# Altium footprint library RF_Module.PcbLib: 68 footprints (part 4 of 5)
Each footprint in its own frame and in the unit in brackets; x right, y up, seen from the top. Pads: shape width x height; smd on the part's side, far side on the other; paste and mask are expansions set on the pad; w line width, h text height; cw(c..) or ccw(c..) is an arc to the next point about the centre after c.
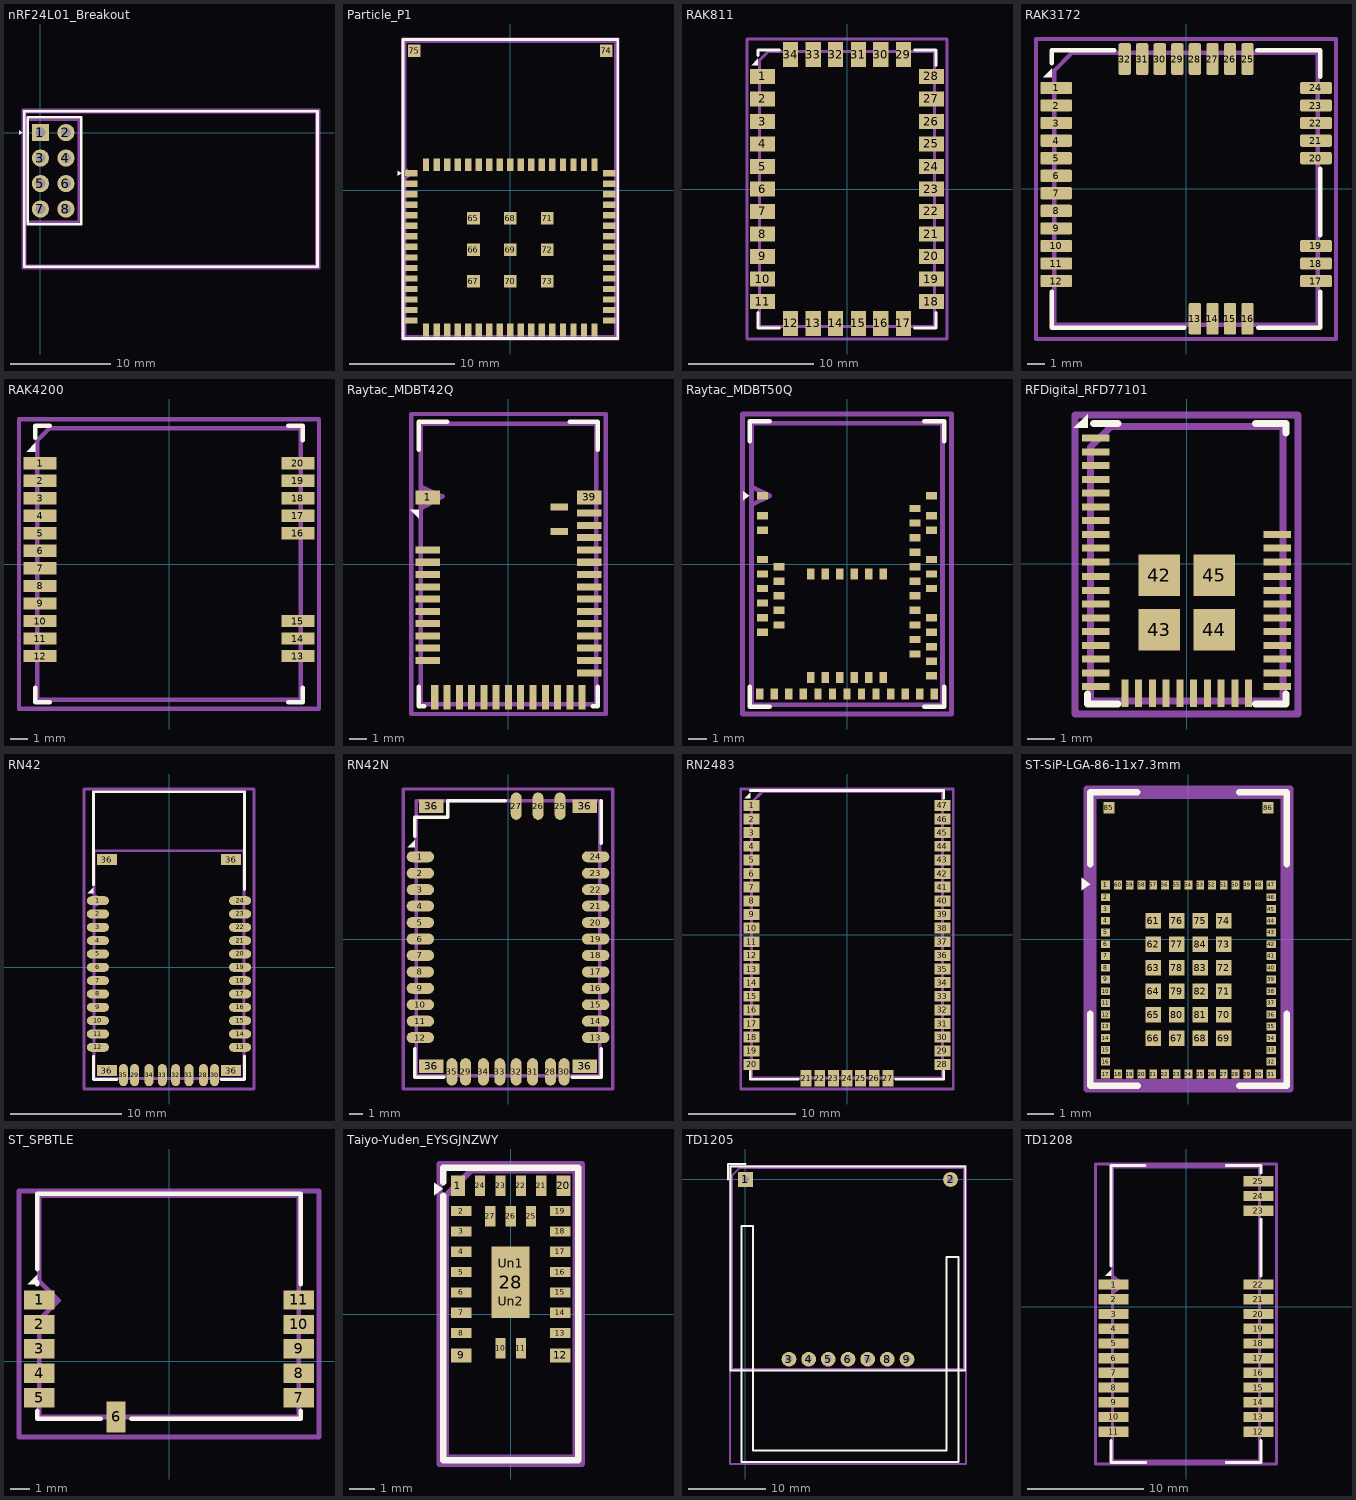
[diagram p3: the footprints below, top view; thin cyan lines are the x and y axes]

## nRF24L01_Breakout [mm]
pads (8):
  rect 1.7x1.7 hole 1: 1(0,0)
  round 1.7 hole 1: 2(2.54,0) 3(0,-2.54) 4(2.54,-2.54) 5(0,-5.08) 6(2.54,-5.08) 7(0,-7.62) 8(2.54,-7.62)
F.SilkS:
  region: -1.8,0 -2.136,-0.24 -2.136,0.24
  lines w0.254: -1.6,-13.35 -1.6,2.1 27.6,2.1 27.6,-13.35 -1.6,-13.35 ; -1.27,-9.144 -1.27,1.524 4.064,1.524 4.064,-9.144 -1.27,-9.144
F.Fab:
  lines w0.254: -1.5,-13.25 -1.5,2 27.5,2 27.5,-13.25 -1.5,-13.25 ; -1.27,-8.89 -1.27,1.27 3.81,1.27 3.81,-8.89 -1.27,-8.89
  text "'.Designator'" at 8.453,-3.34 h1
F.CrtYd:
  lines w0.254: -1.75,-13.5 -1.75,2.25 27.75,2.25 27.75,-13.5 -1.75,-13.5

## Particle_P1 [mm]
pads (75):
  rect 1.2x0.6 smd: 1(-9.4,1.64) 2(-9.4,0.64) 3(-9.4,-0.36) 4(-9.4,-1.36) 5(-9.4,-2.36) 6(-9.4,-3.36) 7(-9.4,-4.36) 8(-9.4,-5.36) 9(-9.4,-6.36) 10(-9.4,-7.36) 11(-9.4,-8.36) 12(-9.4,-9.36) 13(-9.4,-10.36) 14(-9.4,-11.36) 15(-9.4,-12.36) 33(9.4,-12.36) 34(9.4,-11.36) 35(9.4,-10.36) 36(9.4,-9.36) 37(9.4,-8.36) 38(9.4,-7.36) 39(9.4,-6.36) 40(9.4,-5.36) 41(9.4,-4.36) 42(9.4,-3.36) 43(9.4,-2.36) 44(9.4,-1.36) 45(9.4,-0.36) 46(9.4,0.64) 47(9.4,1.64)
  rect 0.6x1.2 smd: 16(-8,-13.26) 17(-7,-13.26) 18(-6,-13.26) 19(-5,-13.26) 20(-4,-13.26) 21(-3,-13.26) 22(-2,-13.26) 23(-1,-13.26) 24(0,-13.26) 25(1,-13.26) 26(2,-13.26) 27(3,-13.26) 28(4,-13.26) 29(5,-13.26) 30(6,-13.26) 31(7,-13.26) 32(8,-13.26) 48(8,2.44) 49(7,2.44) 50(6,2.44) 51(5,2.44) 52(4,2.44) 53(3,2.44) 54(2,2.44) 55(1,2.44) 56(0,2.44) 57(-1,2.44) 58(-2,2.44) 59(-3,2.44) 60(-4,2.44) 61(-5,2.44) 62(-6,2.44) 63(-7,2.44) 64(-8,2.44)
  rect 1.2x1.2 smd: 65(-3.5,-2.63) 66(-3.5,-5.63) 67(-3.5,-8.63) 68(0,-2.63) 69(0,-5.63) 70(0,-8.63) 71(3.5,-2.63) 72(3.5,-5.63) 73(3.5,-8.63) 74(9.12,13.26) 75(-9.12,13.26)
F.SilkS:
  region: -10.35,1.65 -10.686,1.41 -10.686,1.89
  lines w0.254: -10.2,-14.06 -10.2,14.34 10.2,14.34 10.2,-14.06 -10.2,-14.06
F.Fab:
  lines w0.254: -10,-13.86 -10,1.1 -9.4,1.6 -10,2.1 -10,14.14 10,14.14 10,-13.86 -10,-13.86
  text "'.Designator'" at -4.047,-0.84 h1
F.CrtYd:
  lines w0.254: -10.25,-14.11 -10.25,14.39 10.25,14.39 10.25,-14.11 -10.25,-14.11
Cmts.User:
  text "No metal, traces or" at -6.913,8.175 h1
  text "components on any layer" at -8.955,6.783 h1
  text "KEEP-OUT ZONE" at -5.88,10.69 h1

## RAK811 [mm]
pads (34):
  rect 2x1.2 smd: 1(-6.75,9) 2(-6.75,7.2) 3(-6.75,5.4) 4(-6.75,3.6) 5(-6.75,1.8) 6(-6.75,0) 7(-6.75,-1.8) 8(-6.75,-3.6) 9(-6.75,-5.4) 10(-6.75,-7.2) 11(-6.75,-9) 18(6.75,-9) 19(6.75,-7.2) 20(6.75,-5.4) 21(6.75,-3.6) 22(6.75,-1.8) 23(6.75,0) 24(6.75,1.8) 25(6.75,3.6) 26(6.75,5.4) 27(6.75,7.2) 28(6.75,9)
  rect 1.2x2 smd: 12(-4.5,-10.75) 13(-2.7,-10.75) 14(-0.9,-10.75) 15(0.9,-10.75) 16(2.7,-10.75) 17(4.5,-10.75) 29(4.5,10.75) 30(2.7,10.75) 31(0.9,10.75) 32(-0.9,10.75) 33(-2.7,10.75) 34(-4.5,10.75)
F.SilkS:
  region: -7.12,9.9 -7.62,9.9 -7.12,10.4
  lines w0.254: -7.12,-9.9 -7.12,-11.12 -5.4,-11.12 ; -7.12,10.7 -7.12,11.12 -5.4,11.12 ; 5.4,-11.12 7.12,-11.12 7.12,-9.9 ; 5.4,11.12 7.12,11.12 7.12,9.9
F.Fab:
  lines w0.254: -7,-11 -7,10.3 -6.3,11 7,11 7,-11 -7,-11
  text "'.Designator'" at -4.047,-0.84 h1
F.CrtYd:
  lines w0.254: -8,-12 -8,12 8,12 8,-12 -8,-12

## RAK3172 [mm]
pads (32):
  rrect25% 1.8x0.7 smd: 1(-7.4,5.75) 2(-7.4,4.75) 3(-7.4,3.75) 4(-7.4,2.75) 5(-7.4,1.75) 6(-7.4,0.75) 7(-7.4,-0.25) 8(-7.4,-1.25) 9(-7.4,-2.25) 10(-7.4,-3.25) 11(-7.4,-4.25) 12(-7.4,-5.25) 17(7.4,-5.25) 18(7.4,-4.25) 19(7.4,-3.25) 20(7.4,1.75) 21(7.4,2.75) 22(7.4,3.75) 23(7.4,4.75) 24(7.4,5.75)
  rrect25% 0.7x1.8 smd: 13(0.5,-7.4) 14(1.5,-7.4) 15(2.5,-7.4) 16(3.5,-7.4) 25(3.5,7.4) 26(2.5,7.4) 27(1.5,7.4) 28(0.5,7.4) 29(-0.5,7.4) 30(-1.5,7.4) 31(-2.5,7.4) 32(-3.5,7.4)
F.SilkS:
  region: -7.65,6.35 -8.15,6.35 -7.65,6.85
  lines w0.254: -7.65,-5.85 -7.65,-7.9 -0.1,-7.9 ; -7.65,7.15 -7.65,7.85 ; -7.65,7.9 -4.1,7.9 ; 4.05,7.9 7.65,7.9 7.65,6.4 ; 4.1,-7.9 7.65,-7.9 7.65,-5.85 ; 7.65,-2.65 7.65,1.15
F.Fab:
  lines w0.254: -7.5,-7.75 -7.5,6.75 -6.5,7.75 7.5,7.75 7.5,-7.75 -7.5,-7.75
  text "'.Designator'" at -3.997,-2.29 h1
F.CrtYd:
  lines w0.254: -8.55,-8.55 -8.55,8.54 8.54,8.54 8.54,-8.55 -8.55,-8.55

## RAK4200 [mm]
pads (20):
  rect 1.9x0.7 smd: 1(-7.35,5.75) 2(-7.35,4.75) 3(-7.35,3.75) 4(-7.35,2.75) 5(-7.35,1.75) 6(-7.35,0.75) 7(-7.35,-0.25) 8(-7.35,-1.25) 9(-7.35,-2.25) 10(-7.35,-3.25) 11(-7.35,-4.25) 12(-7.35,-5.25) 13(7.35,-5.25) 14(7.35,-4.25) 15(7.35,-3.25) 16(7.35,1.75) 17(7.35,2.75) 18(7.35,3.75) 19(7.35,4.75) 20(7.35,5.75)
F.SilkS:
  region: -7.62,6.4 -8.12,6.4 -7.62,6.9
  lines w0.254: -7.62,-7.05 -7.62,-7.87 -6.8,-7.87 ; -7.62,7.2 -7.62,7.87 -6.8,7.87 ; 6.8,-7.87 7.62,-7.87 7.62,-7.05 ; 6.8,7.87 7.62,7.87 7.62,7.05
F.Fab:
  lines w0.254: -7.5,-7.75 -7.5,7.05 -6.8,7.75 7.5,7.75 7.5,-7.75 -7.5,-7.75
  text "'.Designator'" at -4.047,-0.84 h1
F.CrtYd:
  lines w0.254: -8.55,-8.25 -8.55,8.25 8.55,8.25 8.55,-8.25 -8.55,-8.25

## Raytac_MDBT42Q [mm]
pads (41):
  rect 1.4x0.8 smd: 1(-4.6,3.8) 39(4.6,3.8)
  rect 1.4x0.4 smd: 2(-4.6,0.8) 3(-4.6,0.1) 4(-4.6,-0.6) 5(-4.6,-1.3) 6(-4.6,-2) 7(-4.6,-2.7) 8(-4.6,-3.4) 9(-4.6,-4.1) 10(-4.6,-4.8) 11(-4.6,-5.5) 25(4.6,-6.2) 26(4.6,-5.5) 27(4.6,-4.8) 28(4.6,-4.1) 29(4.6,-3.4) 30(4.6,-2.7) 31(4.6,-2) 32(4.6,-1.3) 33(4.6,-0.6) 34(4.6,0.1) 35(4.6,0.8) 36(4.6,1.5) 37(4.6,2.2) 38(4.6,2.9)
  rect 0.4x1.4 smd: 12(-4.2,-7.6) 13(-3.5,-7.6) 14(-2.8,-7.6) 15(-2.1,-7.6) 16(-1.4,-7.6) 17(-0.7,-7.6) 18(0,-7.6) 19(0.7,-7.6) 20(1.4,-7.6) 21(2.1,-7.6) 22(2.8,-7.6) 23(3.5,-7.6) 24(4.2,-7.6)
  rect 1x0.4 smd: 40(2.9,3.25) 41(2.9,1.85)
F.SilkS:
  region: -5.1,2.6 -5.6,3.1 -5.1,3.1
  lines w0.254: -5.1,-7 -5.1,-8.1 -4.8,-8.1 ; -5.1,6.5 -5.1,8.1 -3.5,8.1 ; 3.5,8.1 5.1,8.1 5.1,6.5 ; 4.8,-8.1 5.1,-8.1 5.1,-7
F.Fab:
  lines w0.254: -5,3.15 -3.75,3.85 -5,4.4 ; -5,-8 5,-8 5,8 -5,8 -5,-8
  text "'.Designator'" at -4.047,-1.84 h1
F.CrtYd:
  lines w0.254: -5.55,-8.55 5.55,-8.55 5.55,8.55 -5.55,8.55 -5.55,-8.55

## Raytac_MDBT50Q [mm]
pads (61):
  rect 0.6x0.4 smd: 1(-4.65,3.75) 2(-4.65,2.65) 3(-4.65,1.85) 4(-4.65,0.25) 5(-3.75,-0.15) 6(-4.65,-0.55) 7(-3.75,-0.95) 8(-4.65,-1.35) 9(-3.75,-1.75) 10(-4.65,-2.15) 11(-3.75,-2.55) 12(-4.65,-2.95) 13(-3.75,-3.35) 14(-4.65,-3.75) 34(4.65,-6.15) 35(4.65,-5.35) 36(3.75,-4.95) 37(4.65,-4.55) 38(3.75,-4.15) 39(4.65,-3.75) 40(3.75,-3.35) 41(4.65,-2.95) 42(3.75,-2.55) 43(3.75,-1.75) 44(4.65,-1.35) 45(3.75,-0.95) 46(4.65,-0.55) 47(3.75,-0.15) 48(4.65,0.25) 49(3.75,0.65) 50(3.75,1.45) 51(4.65,1.85) 52(3.75,2.25) 53(4.65,2.65) 54(3.75,3.05) 55(4.65,3.75)
  rect 0.4x0.6 smd: 15(-4.8,-7.15) 16(-4,-7.15) 17(-3.2,-7.15) 18(-2.4,-7.15) 19(-2,-6.25) 20(-1.6,-7.15) 21(-1.2,-6.25) 22(-0.8,-7.15) 23(-0.4,-6.25) 24(0,-7.15) 25(0.4,-6.25) 26(0.8,-7.15) 27(1.2,-6.25) 28(1.6,-7.15) 29(2,-6.25) 30(2.4,-7.15) 31(3.2,-7.15) 32(4,-7.15) 33(4.8,-7.15) 56(-2,-0.55) 57(-1.2,-0.55) 58(-0.4,-0.55) 59(0.4,-0.55) 60(1.2,-0.55) 61(2,-0.55)
F.SilkS:
  region: -5.375,3.75 -5.711,3.51 -5.711,3.99
  lines w0.254: -5.35,-6.75 -5.35,-7.85 -4.25,-7.85 ; -5.35,6.75 -5.35,7.85 -4.25,7.85 ; 4.25,-7.85 5.35,-7.85 5.35,-6.75 ; 4.25,7.85 5.35,7.85 5.35,6.75
F.Fab:
  lines w0.254: -5.25,3.25 -4.25,3.75 -5.25,4.25 ; -5.25,-7.75 -5.25,7.75 5.25,7.75 5.25,-7.75 -5.25,-7.75
  text "'.Designator'" at -3.997,-2.59 h1
F.CrtYd:
  lines w0.254: -5.75,-8.25 -5.75,8.25 5.75,8.25 5.75,-8.25 -5.75,-8.25
Cmts.User:
  text "TOP LAYER" at -3.135,3.36 h0.4
  text "KEEP OUT" at -2.888,2.86 h0.4
  text "KEEP OUT ZONE" at -4.537,5.2 h0.8
3D body "Raytac_MDBT50Q.step": height 2.06, standoff 0, extent -5.25,-7.75 5.25,7.75

## RFDigital_RFD77101 [mm]
pads (45):
  rect 1x0.254 smd: 1(-3.305,4.57) 2(-3.305,4.07) 3(-3.305,3.57) 4(-3.305,3.07) 5(-3.305,2.57) 6(-3.305,2.07) 7(-3.305,1.57) 8(-3.305,1.07) 9(-3.305,0.57) 10(-3.305,0.07) 11(-3.305,-0.47) 12(-3.305,-0.97) 13(-3.305,-1.47) 14(-3.305,-1.97) 15(-3.305,-2.47) 16(-3.305,-2.97) 17(-3.305,-3.47) 18(-3.305,-3.97) 19(-3.305,-4.47) 30(3.305,-4.47) 31(3.305,-3.97) 32(3.305,-3.47) 33(3.305,-2.97) 34(3.305,-2.47) 35(3.305,-1.97) 36(3.305,-1.47) 37(3.305,-0.97) 38(3.305,-0.47) 39(3.305,0.07) 40(3.305,0.57) 41(3.305,1.07)
  rect 0.254x1 smd: 20(-2.25,-4.72) 21(-1.75,-4.72) 22(-1.25,-4.72) 23(-0.75,-4.72) 24(-0.25,-4.72) 25(0.25,-4.72) 26(0.75,-4.72) 27(1.25,-4.72) 28(1.75,-4.72) 29(2.25,-4.72)
  rrect0% 1.5x1.5 smd: 42(-1,-0.42)
  rect 1.5x1.5 smd: 43(-1,-2.4) 44(1,-2.4) 45(1,-0.42)
F.SilkS:
  region: -3.61,4.95 -4.11,4.95 -3.61,5.45
  lines w0.254: -3.61,-4.75 -3.61,-5.11 -2.5,-5.11 ; -3.4,5.11 -2.5,5.11 ; 2.5,-5.11 3.61,-5.11 3.61,-4.75 ; 2.5,5.11 3.61,5.11 3.61,4.75
F.Fab:
  lines w0.254: -3.5,-5 3.5,-5 3.5,5 -2.75,5 -3.5,4.25 -3.5,-5
  text "'.Designator'" at -4.047,-0.84 h1
F.CrtYd:
  lines w0.254: -4.06,-5.47 4.06,-5.47 4.06,5.42 -4.06,5.42 -4.06,-5.47

## RN42 [mm]
pads (36):
  rrect100% 2x0.8 smd: 1(-6.4,6) 2(-6.4,4.8) 3(-6.4,3.6) 4(-6.4,2.4) 5(-6.4,1.2) 6(-6.4,0) 7(-6.4,-1.2) 8(-6.4,-2.4) 9(-6.4,-3.6) 10(-6.4,-4.8) 11(-6.4,-6) 12(-6.4,-7.2) 13(6.4,-7.2) 14(6.4,-6) 15(6.4,-4.8) 16(6.4,-3.6) 17(6.4,-2.4) 18(6.4,-1.2) 19(6.4,0) 20(6.4,1.2) 21(6.4,2.4) 22(6.4,3.6) 23(6.4,4.8) 24(6.4,6)
  rrect100% 0.8x2 smd: 28(3.1,-9.7) 29(-3.1,-9.7) 30(4.1,-9.7) 31(1.8,-9.7) 32(0.6,-9.7) 33(-0.6,-9.7) 34(-1.8,-9.7) 35(-4.1,-9.7)
  rect 1.8x1 smd: 36(-5.6,-9.3) 36(-5.6,9.7) 36(5.6,-9.3) 36(5.6,9.7)
F.SilkS:
  region: -6.8,6.675 -7.3,6.675 -6.8,7.175
  lines w0.254: -6.8,-8 -6.8,-10.1 -4.7,-10.1 ; -6.8,7.425 -6.8,15.8 6.8,15.8 6.8,7 ; 4.7,-10.1 6.8,-10.1 6.8,-8
F.Fab:
  lines w0.254: -6.75,5.5 -5.75,6 -6.75,6.5 ; -6.75,-10 -6.75,10.5 6.75,10.5 6.75,-10 -6.75,-10
  text "'.Designator'" at -4.047,1.66 h1
F.CrtYd:
  lines w0.254: -7.65,-10.95 -7.65,16.05 7.65,16.05 7.65,-10.95 -7.65,-10.95
Cmts.User:
  text "Antenna Area" at -4.404,12.35 h1

## RN42N [mm]
pads (39):
  rrect100% 2x0.8 smd: 1(-6.4,6) 2(-6.4,4.8) 3(-6.4,3.6) 4(-6.4,2.4) 5(-6.4,1.2) 6(-6.4,0) 7(-6.4,-1.2) 8(-6.4,-2.4) 9(-6.4,-3.6) 10(-6.4,-4.8) 11(-6.4,-6) 12(-6.4,-7.2) 13(6.4,-7.2) 14(6.4,-6) 15(6.4,-4.8) 16(6.4,-3.6) 17(6.4,-2.4) 18(6.4,-1.2) 19(6.4,0) 20(6.4,1.2) 21(6.4,2.4) 22(6.4,3.6) 23(6.4,4.8) 24(6.4,6)
  rrect100% 0.8x2 smd: 25(3.8,9.7) 26(2.2,9.7) 27(0.6,9.7) 28(3.1,-9.7) 29(-3.1,-9.7) 30(4.1,-9.7) 31(1.8,-9.7) 32(0.6,-9.7) 33(-0.6,-9.7) 34(-1.8,-9.7) 35(-4.1,-9.7)
  rect 1.8x1 smd: 36(-5.6,-9.3) 36(-5.6,9.7) 36(5.6,-9.3) 36(5.6,9.7)
F.SilkS:
  region: -6.825,6.7 -7.325,6.7 -6.825,7.2
  lines w0.254: -6.8,-8 -6.8,-10.1 -4.7,-10.1 ; -6.8,7.5 -6.8,8.9 -4.4,8.9 -4.4,10.1 -0.2,10.1 ; 4.7,-10.1 6.8,-10.1 6.8,-8 ; 6.8,7 6.8,10.1
F.Fab:
  lines w0.254: -6.7,5.6 -6.1,6 -6.7,6.4 ; -6.7,-10 -6.7,10.1 6.7,10.1 6.7,-10 -6.7,-10
  text "'.Designator'" at -4.017,0.81 h1
F.CrtYd:
  lines w0.254: -7.65,-10.95 -7.65,10.95 7.65,10.95 7.65,-10.95 -7.65,-10.95

## RN2483 [mil]
pads (47):
  rect 60x40 smd: 1(-350,475) 2(-350,425) 3(-350,375) 4(-350,325) 5(-350,275) 6(-350,225) 7(-350,175) 8(-350,125) 9(-350,75) 10(-350,25) 11(-350,-25) 12(-350,-75) 13(-350,-125) 14(-350,-175) 15(-350,-225) 16(-350,-275) 17(-350,-325) 18(-350,-375) 19(-350,-425) 20(-350,-475) 28(350,-475) 29(350,-425) 30(350,-375) 31(350,-325) 32(350,-275) 33(350,-225) 34(350,-175) 35(350,-125) 36(350,-75) 37(350,-25) 38(350,25) 39(350,75) 40(350,125) 41(350,175) 42(350,225) 43(350,275) 44(350,325) 45(350,375) 46(350,425) 47(350,475)
  rect 40x60 smd: 21(-150,-525) 22(-100,-525) 23(-50,-525) 24(0,-525) 25(50,-525) 26(100,-525) 27(150,-525)
F.SilkS:
  region: -354.33,501.97 -374.02,501.97 -354.33,521.65
  lines w10: -354.33,-500 -354.33,-529.13 -180,-529.13 ; -354.33,529.13 354.33,529.13 354.33,501.97 ; 180,-529.13 354.33,-529.13 354.33,-500
F.Fab:
  lines w10: -350,-525 -350,485.63 -310.63,525 350,525 350,-525 -350,-525
  text "'.Designator'" at -379.32,426.92 h39.37
F.CrtYd:
  lines w10: -389.76,-564.96 -389.76,535.04 389.76,535.04 389.76,-564.96 -389.76,-564.96

## ST-SiP-LGA-86-11x7.3mm [mm]
pads (86):
  rect 0.35x0.35 smd: 1(-3.175,2.075) 17(-3.175,-5.175) 31(3.175,-5.175) 47(3.175,2.075)
  rect 0.35x0.3 smd: 2(-3.175,1.6) 3(-3.175,1.15) 4(-3.175,0.7) 5(-3.175,0.25) 6(-3.175,-0.2) 7(-3.175,-0.65) 8(-3.175,-1.1) 9(-3.175,-1.55) 10(-3.175,-2) 11(-3.175,-2.45) 12(-3.175,-2.9) 13(-3.175,-3.35) 14(-3.175,-3.8) 15(-3.175,-4.25) 16(-3.175,-4.7) 32(3.175,-4.7) 33(3.175,-4.25) 34(3.175,-3.8) 35(3.175,-3.35) 36(3.175,-2.9) 37(3.175,-2.45) 38(3.175,-2) 39(3.175,-1.55) 40(3.175,-1.1) 41(3.175,-0.65) 42(3.175,-0.2) 43(3.175,0.25) 44(3.175,0.7) 45(3.175,1.15) 46(3.175,1.6)
  rect 0.3x0.35 smd: 18(-2.7,-5.175) 19(-2.25,-5.175) 20(-1.8,-5.175) 21(-1.35,-5.175) 22(-0.9,-5.175) 23(-0.45,-5.175) 24(0,-5.175) 25(0.45,-5.175) 26(0.9,-5.175) 27(1.35,-5.175) 28(1.8,-5.175) 29(2.25,-5.175) 30(2.7,-5.175) 48(2.7,2.075) 49(2.25,2.075) 50(1.8,2.075) 51(1.35,2.075) 52(0.9,2.075) 53(0.45,2.075) 54(0,2.075) 55(-0.45,2.075) 56(-0.9,2.075) 57(-1.35,2.075) 58(-1.8,2.075) 59(-2.25,2.075) 60(-2.7,2.075)
  rect 0.6x0.6 smd: 61(-1.35,0.7) 62(-1.35,-0.2) 63(-1.35,-1.1) 64(-1.35,-2) 65(-1.35,-2.9) 66(-1.35,-3.8) 67(-0.45,-3.8) 68(0.45,-3.8) 69(1.35,-3.8) 70(1.35,-2.9) 71(1.35,-2) 72(1.35,-1.1) 73(1.35,-0.2) 74(1.35,0.7) 75(0.45,0.7) 76(-0.45,0.7) 77(-0.45,-0.2) 78(-0.45,-1.1) 79(-0.45,-2) 80(-0.45,-2.9) 81(0.45,-2.9) 82(0.45,-2) 83(0.45,-1.1) 84(0.45,-0.2)
  rect 0.43x0.43 smd: 85(-3.05,5.035) 86(3.05,5.035)
F.SilkS:
  region: -3.76,2.1 -4.09,1.86 -4.09,2.34
  lines w0.254: -3.77,-2.87 -3.77,-5.62 -1.945,-5.62 ; -3.77,2.87 -3.77,5.625 -1.97,5.625 ; 1.945,-5.62 3.77,-5.62 3.77,-2.87 ; 1.945,5.62 3.77,5.62 3.77,2.87
F.Fab:
  region: -3.76,2.1 -4.09,1.86 -4.09,2.34
  lines w0.254: -3.65,-5.5 -3.65,5.5 3.65,5.5 3.65,-5.5 -3.65,-5.5
  text "'.Designator'" at 0.84,-4.047 h1
F.CrtYd:
  lines w0.254: -3.9,-5.75 -3.9,5.75 3.9,5.75 3.9,-5.75 -3.9,-5.75
3D body "ST-SiP-LGA-86-11x7.3mm.step": height 1.34, standoff -0.04, extent -3.65,-5.5 3.65,5.5

## ST_SPBTLE [mm]
pads (11):
  rect 1.6x1 smd: 1(-6.75,3.19) 2(-6.75,1.92) 3(-6.75,0.65) 4(-6.75,-0.62) 5(-6.75,-1.89) 7(6.75,-1.89) 8(6.75,-0.62) 9(6.75,0.65) 10(6.75,1.92) 11(6.75,3.19)
  rect 1x1.6 smd: 6(-2.75,-2.89)
F.SilkS:
  region: -6.85,4.01 -7.35,4.01 -6.85,4.51
  lines w0.254: -6.85,-2.59 -6.85,-2.99 -3.65,-2.99 -3.55,-2.99 ; -6.85,4.01 -6.85,4.11 ; -6.85,4.8 -6.85,8.71 6.85,8.71 6.85,4.01 ; -1.95,-2.99 6.85,-2.99 6.85,-2.59
F.Fab:
  lines w0.254: -6.75,-2.89 6.75,-2.89 6.75,8.61 -6.75,8.61 -6.75,4.16 -5.75,3.16 -6.75,2.16 -6.75,-2.89
  text "'.Designator'" at -3.997,2.07 h1
F.CrtYd:
  lines w0.254: -7.8,-3.94 7.8,-3.94 7.8,8.86 -7.8,8.86 -7.8,-3.94
Cmts.User:
  text "No copper" at -6.801,11.497 h0.8
  text "on any layer" at -7.521,10.387 h0.8

## Taiyo-Yuden_EYSGJNZWY [mm]
pads (30):
  rect 0.55x0.8 smd: 1(-2.075,5.05) 20(2.075,5.05)
  rect 0.8x0.4 smd: 2(-1.95,4.05) 3(-1.95,3.25) 4(-1.95,2.45) 5(-1.95,1.65) 6(-1.95,0.85) 7(-1.95,0.05) 8(-1.95,-0.75) 13(1.95,-0.75) 14(1.95,0.05) 15(1.95,0.85) 16(1.95,1.65) 17(1.95,2.45) 18(1.95,3.25) 19(1.95,4.05)
  rect 0.8x0.55 smd: 9(-1.95,-1.625) 12(1.95,-1.625)
  rect 0.4x0.8 smd: 10(-0.4,-1.35) 11(0.4,-1.35) 21(1.2,5.05) 22(0.4,5.05) 23(-0.4,5.05) 24(-1.2,5.05) 25(0.8,3.85) 26(0,3.85) 27(-0.8,3.85)
  rect 1.5x2.8 smd: 28(0,1.25)
  rect 1.2x1.1 on Top Paste: Un1(0,2) Un2(0,0.5)
F.SilkS:
  region: -2.68,4.92 -3.01,4.68 -3.01,5.16
  lines w0.254: -2.66,4.66 -2.66,-5.76 2.66,-5.76 2.66,5.76 -2.66,5.76 -2.66,5.18
F.Fab:
  lines w0.254: -2.55,-5.65 -2.55,4.65 -1.55,5.65 2.55,5.65 2.55,-5.65 -2.55,-5.65
  text "'.Designator'" at 0.84,-4.047 h1
F.CrtYd:
  lines w0.254: -2.8,-5.9 -2.8,5.9 2.8,5.9 2.8,-5.9 -2.8,-5.9
Cmts.User:
  text "KEEP OUT ZONE" at -5.696,-4.9 h1
3D body "Taiyo-Yuden_EYSGJNZWY.step": height 1.3, standoff 0, extent -2.55,-5.65 2.55,5.65

## TD1205 [mm]
pads (9):
  rect 1.905x1.905 hole 0.89: 1(0,0)
  round 1.905 hole 0.89: 2(26.5,0) 3(5.63,-23.21) 4(8.17,-23.21) 5(10.71,-23.21) 6(13.25,-23.21) 7(15.79,-23.21) 8(18.33,-23.21) 9(20.87,-23.21)
F.SilkS:
  lines w0.254: -2.25,0 -2.25,2 0,2 ; -0.5,-36.5 -0.5,-6 1,-6 1,-35 26,-35 26,-10 27.5,-10 27.5,-36.5 ; -0.48,-36.5 27.46,-36.5 ; -1.9,-24.65 28.4,-24.65 28.4,1.65 -1.9,1.65 -1.9,-24.65
F.Fab:
  lines w0.254: -1.75,-24.5 28.25,-24.5 28.25,1.5 -0.75,1.5 -1.75,0.5 -1.75,-24.5
  text "'.Designator'" at 12.27,-21.827 h1
F.CrtYd:
  lines w0.254: -2,-36.75 28.5,-36.75 28.5,1.75 -2,1.75 -2,-36.75

## TD1208 [mm]
pads (25):
  rect 2.6x0.89 smd: 1(-6.25,1.905) 2(-6.25,0.635) 3(-6.25,-0.635) 4(-6.25,-1.905) 5(-6.25,-3.175) 6(-6.25,-4.445) 7(-6.25,-5.715) 8(-6.25,-6.985) 9(-6.25,-8.255) 10(-6.25,-9.525) 11(-6.25,-10.795) 12(6.25,-10.795) 13(6.25,-9.525) 14(6.25,-8.255) 15(6.25,-6.985) 16(6.25,-5.715) 17(6.25,-4.445) 18(6.25,-3.175) 19(6.25,-1.905) 20(6.25,-0.635) 21(6.25,0.635) 22(6.25,1.905) 23(6.25,8.285) 24(6.25,9.555) 25(6.25,10.825)
F.SilkS:
  region: -6.477,2.667 -6.977,2.667 -6.477,3.167
  lines w0.254: -6.477,-11.557 -6.477,-13.462 -3.477,-13.462 ; -6.477,3.5 -6.477,12.192 -3.556,12.192 ; 3.477,-13.462 6.477,-13.462 6.477,-11.557 ; 3.477,12.192 6.477,12.192 6.477,11.557 ; 6.477,2.65 6.477,7.55
F.Fab:
  lines w0.254: -6.35,1.155 -5.35,1.905 -6.35,2.655 ; -6.35,-13.335 -6.35,12.065 6.35,12.065 6.35,-13.335 -6.35,-13.335
  text "'.Designator'" at -4.047,-0.205 h1
F.CrtYd:
  lines w0.254: -7.8,-13.59 -7.8,12.32 7.8,12.32 7.8,-13.59 -7.8,-13.59
Cmts.User:
  text "Keepout" at 1.123,8.272 h0.65